# Altium schematic symbol library emi_emc_ferrites.SchLib: 6 symbols
Pins are listed as number, name and electrical type; pins without a type are passive.

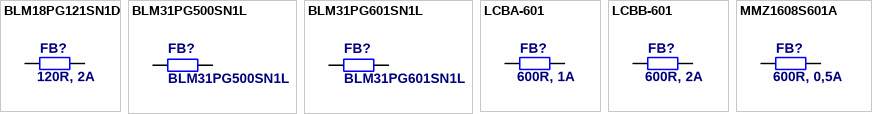
[diagram p0: symbols BLM18PG121SN1D to MMZ1608S601A]

## BLM18PG121SN1D
designator FB?, comment 120R, 2A
Ferrite Bead; Imp.@ 100MHz:120R; Mounting: SMD; 2A; Case: 0603; Published: 19-Feb-2006; ComponentLink1Description: datasheet; ComponentLink2Description: supplier; Supplier 1: TME; Supplier Part Number 1: BLM18PG121SN1D; Value: 120R, 2A
footprint FB0603
pins: 1, 2
1 alternate drawing of the same symbol

## BLM31PG500SN1L
designator FB?
Ferrite Bead; Imp.@ 100MHz:50R; Mounting: SMD; 3A; Case: 1206
footprint FB1206
pins: 1, 2
1 alternate drawing of the same symbol

## BLM31PG601SN1L
designator FB?
Ferrite Bead; Imp.@ 100MHz:600R; Mounting: SMD; 1,5A; Case: 1206
footprint FB1206
pins: 1, 2
1 alternate drawing of the same symbol

## LCBA-601
designator FB?, comment 600R, 1A
Ferrite Bead; Imp.@ 100MHz:600R; Mounting: SMD; 1A; Case: 0603; Published: 19-Feb-2006; ComponentLink1Description: datasheet; ComponentLink2Description: supplier; Supplier 1: TME; Supplier 2: TME; Supplier Part Number 1: LCBA-601; Supplier Part Number 2: PBY160808T-601Y; Value: 600R, 1A
footprint FB0603
pins: 1, 2
1 alternate drawing of the same symbol

## LCBB-601
designator FB?, comment 600R, 2A
Ferrite Bead; Imp.@ 100MHz:600R; Mounting: SMD; 2A; Case: 0805; Published: 19-Feb-2006; ComponentLink1Description: datasheet; ComponentLink2Description: supplier; Supplier 1: TME; Supplier 2: TME; Supplier Part Number 1: PBY201209T-601Y; Supplier Part Number 2: LCBB-601; Value: 600R, 2A
footprint FB0805
pins: 1, 2
2 alternate drawings of the same symbol

## MMZ1608S601A
designator FB?, comment 600R, 0,5A
Ferrite Bead; Imp.@ 100MHz:600R; Mounting: SMD; 0,5A; Case: 0603; Published: 19-Feb-2006; ComponentLink1Description: datasheet; ComponentLink2Description: supplier; Supplier 1: TME; Supplier Part Number 1: MMZ1608S601A; Value: 600R, 0,5A
footprint FB0603
pins: 1, 2
1 alternate drawing of the same symbol